# Altium footprint library microchip.PCBLIB: 54 footprints (part 3 of 4)
Each footprint in its own frame and in the unit in brackets; x right, y up, seen from the top. Pads: shape width x height; smd on the part's side, far side on the other; paste and mask are expansions set on the pad; w line width, h text height; cw(c..) or ccw(c..) is an arc to the next point about the centre after c.
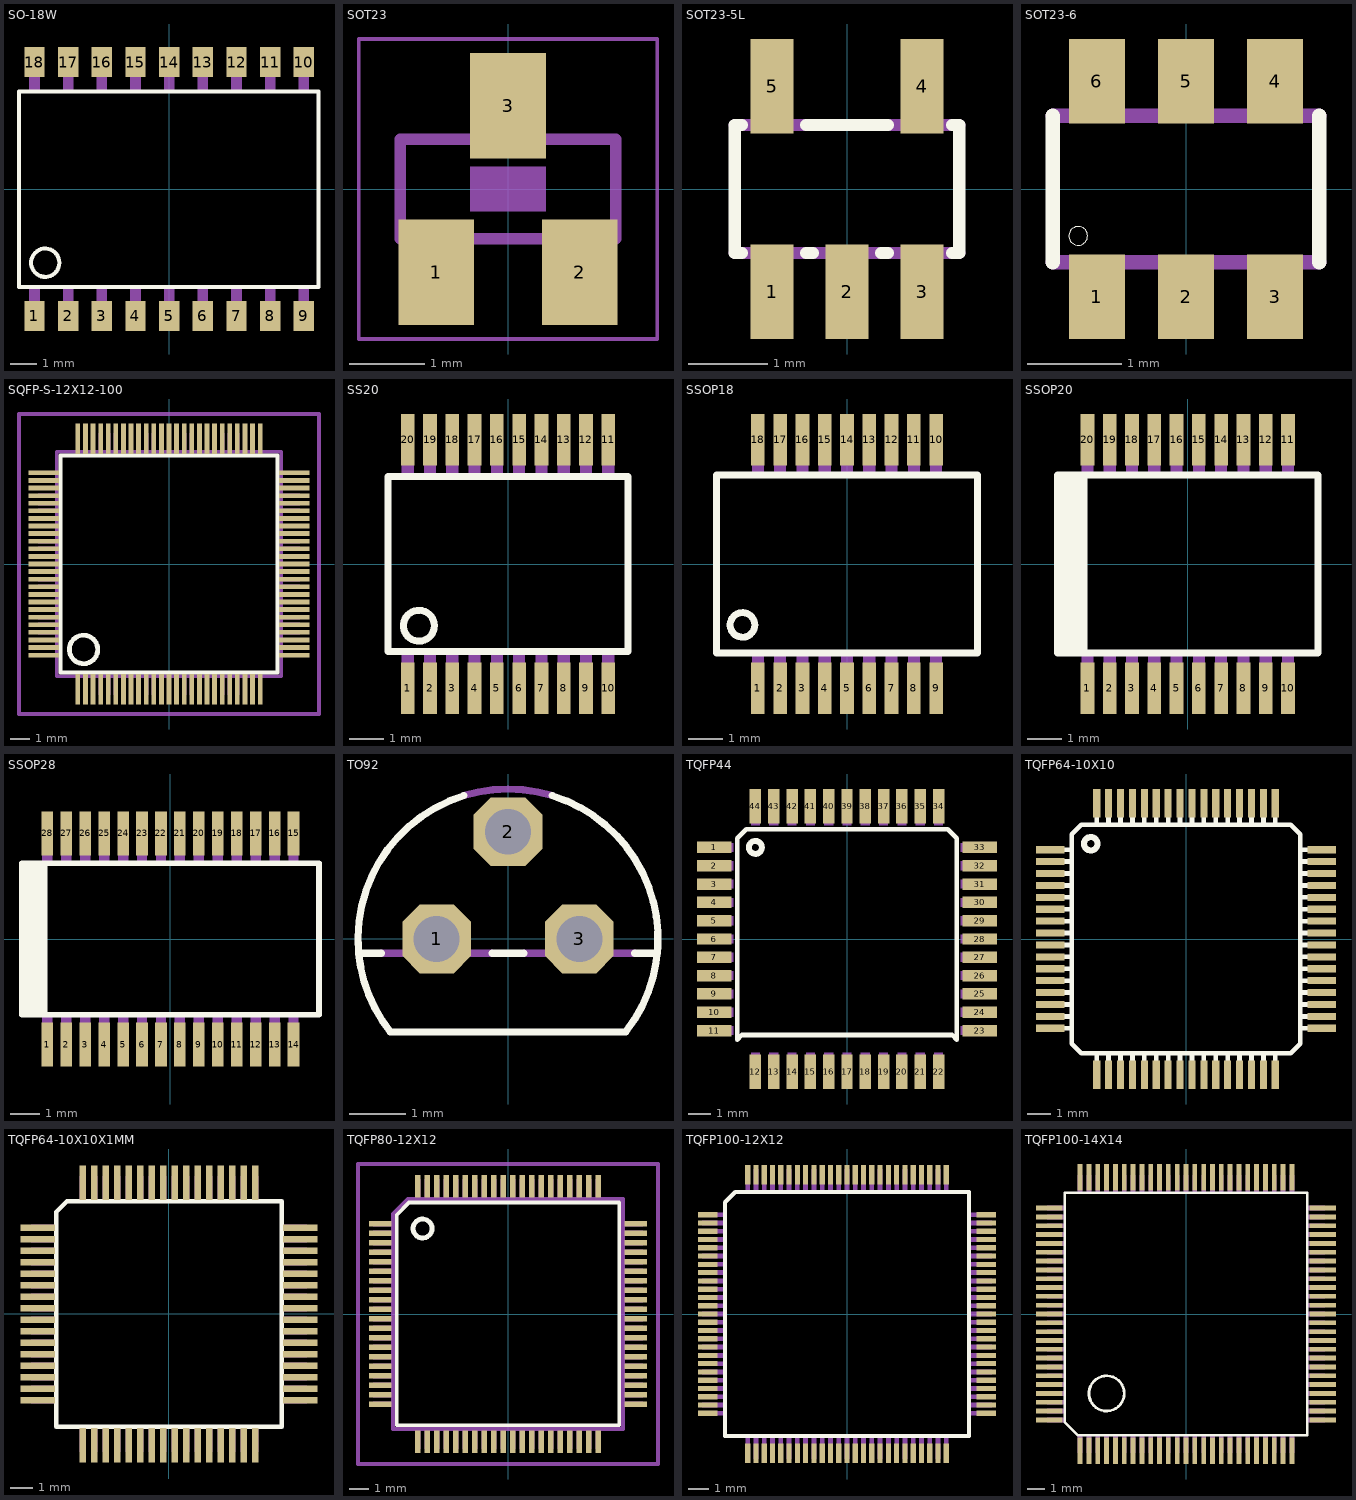
[diagram p2: the footprints below, top view; thin cyan lines are the x and y axes]

## SO-18W [mil]
pads (18):
  rect 30x45 smd: 1(-200,-188.5) 2(-150,-188.5) 3(-100,-188.5) 4(-50,-188.5) 5(0,-188.5) 6(50,-188.5) 7(100,-188.5) 8(150,-188.5) 9(200,-188.5) 10(200,188.5) 11(150,188.5) 12(100,188.5) 13(50,188.5) 14(0,188.5) 15(-50,188.5) 16(-100,188.5) 17(-150,188.5) 18(-200,188.5)
Top Overlay:
  circle w6: c-184,-109.5 r21
  lines w6: -223,-145.5 -223,144.5 222,144.5 222,-145.5 -223,-145.5
Mechanical 16:
  rectangle: 192,-200.5 208,-147.5
  rectangle: 142,-200.5 158,-147.5
  rectangle: 92,-200.5 108,-147.5
  rectangle: 42,-200.5 58,-147.5
  rectangle: -8,-200.5 8,-147.5
  rectangle: -58,-200.5 -42,-147.5
  rectangle: -108,-200.5 -92,-147.5
  rectangle: -158,-200.5 -142,-147.5
  rectangle: -208,-200.5 -192,-147.5
  rectangle: -208,146.5 -192,199.5
  rectangle: -158,146.5 -142,199.5
  rectangle: -108,146.5 -92,199.5
  rectangle: -58,146.5 -42,199.5
  rectangle: -8,146.5 8,199.5
  rectangle: 42,146.5 58,199.5
  rectangle: 92,146.5 108,199.5
  rectangle: 142,146.5 158,199.5
  rectangle: 192,146.5 208,199.5

## SOT23 [mm]
pads (3):
  rect 1x1.4 smd: 1(-0.95,-1.1) 2(0.95,-1.1) 3(0,1.1)
Mechanical 6:
  rectangle: -0.5,-0.3 0.5,0.3
Mechanical 16:
  rectangle: -0.229,0.711 0.229,1.295
  rectangle: 0.711,-1.295 1.168,-0.711
  rectangle: -1.168,-1.295 -0.711,-0.711
  lines w0.152: -1.422,-0.66 1.422,-0.66 1.422,0.66 -1.422,0.66 -1.422,-0.66
Mechanical 27:
  lines w0.051: -1.973,-1.983 1.973,-1.983 1.973,1.983 -1.973,1.983 -1.973,-1.983

## SOT23-5L [mm]
pads (5):
  rect 0.55x1.2 smd: 1(-0.95,-1.3) 2(0,-1.3) 3(0.95,-1.3) 4(0.95,1.3) 5(-0.95,1.3)
Top Overlay:
  lines w0.152: -1.328,-0.81 -1.422,-0.81 -1.422,0.81 -1.328,0.81 ; -0.522,-0.81 -0.428,-0.81 ; -0.522,0.81 0.522,0.81 ; 0.428,-0.81 0.522,-0.81 ; 1.328,-0.81 1.422,-0.81 1.422,0.81 1.328,0.81
Mechanical 16:
  rectangle: -1.2,-1.5 -0.7,-0.85
  rectangle: -0.25,-1.5 0.25,-0.85
  rectangle: 0.7,-1.5 1.2,-0.85
  rectangle: 0.7,0.85 1.2,1.5
  rectangle: -1.2,0.85 -0.7,1.5
  lines w0.152: -1.422,-0.81 1.422,-0.81 ; -1.422,0.81 1.422,0.81

## SOT23-6 [mm]
pads (6):
  rect 0.6x0.9 smd: 1(-0.95,-1.15) 2(0,-1.15) 3(0.95,-1.15) 4(0.95,1.15) 5(0,1.15) 6(-0.95,1.15)
Top Overlay:
  circle w0: c-1.15,-0.5 r0.1
  lines w0.152: -1.423,-0.781 -1.423,0.781 ; 1.422,-0.781 1.422,0.781
Mechanical 16:
  rectangle: -1.2,-1.4 -0.7,-0.8
  rectangle: -0.25,-1.4 0.25,-0.8
  rectangle: 0.7,-1.4 1.2,-0.8
  rectangle: 0.7,0.8 1.2,1.4
  rectangle: -0.25,0.8 0.25,1.4
  rectangle: -1.2,0.8 -0.7,1.4
  lines w0.152: -1.423,-0.781 1.422,-0.781 ; -1.423,0.781 1.422,0.781

## SQFP-S-12X12-100 [mm]
pads (100):
  rect 0.25x1.6 smd: 1(-4.8,-6.6) 2(-4.4,-6.6) 3(-4,-6.6) 4(-3.6,-6.6) 5(-3.2,-6.6) 6(-2.8,-6.6) 7(-2.4,-6.6) 8(-2,-6.6) 9(-1.6,-6.6) 10(-1.2,-6.6) 11(-0.8,-6.6) 12(-0.4,-6.6) 13(0,-6.6) 14(0.4,-6.6) 15(0.8,-6.6) 16(1.2,-6.6) 17(1.6,-6.6) 18(2,-6.6) 19(2.4,-6.6) 20(2.8,-6.6) 21(3.2,-6.6) 22(3.6,-6.6) 23(4,-6.6) 24(4.4,-6.6) 25(4.8,-6.6) 51(4.8,6.6) 52(4.4,6.6) 53(4,6.6) 54(3.6,6.6) 55(3.2,6.6) 56(2.8,6.6) 57(2.4,6.6) 58(2,6.6) 59(1.6,6.6) 60(1.2,6.6) 61(0.8,6.6) 62(0.4,6.6) 63(0,6.6) 64(-0.4,6.6) 65(-0.8,6.6) 66(-1.2,6.6) 67(-1.6,6.6) 68(-2,6.6) 69(-2.4,6.6) 70(-2.8,6.6) 71(-3.2,6.6) 72(-3.6,6.6) 73(-4,6.6) 74(-4.4,6.6) 75(-4.8,6.6)
  rect 1.6x0.25 smd: 26(6.6,-4.8) 27(6.6,-4.4) 28(6.6,-4) 29(6.6,-3.6) 30(6.6,-3.2) 31(6.6,-2.8) 32(6.6,-2.4) 33(6.6,-2) 34(6.6,-1.6) 35(6.6,-1.2) 36(6.6,-0.8) 37(6.6,-0.4) 38(6.6,0) 39(6.6,0.4) 40(6.6,0.8) 41(6.6,1.2) 42(6.6,1.6) 43(6.6,2) 44(6.6,2.4) 45(6.6,2.8) 46(6.6,3.2) 47(6.6,3.6) 48(6.6,4) 49(6.6,4.4) 50(6.6,4.8) 76(-6.6,4.8) 77(-6.6,4.4) 78(-6.6,4) 79(-6.6,3.6) 80(-6.6,3.2) 81(-6.6,2.8) 82(-6.6,2.4) 83(-6.6,2) 84(-6.6,1.6) 85(-6.6,1.2) 86(-6.6,0.8) 87(-6.6,0.4) 88(-6.6,0) 89(-6.6,-0.4) 90(-6.6,-0.8) 91(-6.6,-1.2) 92(-6.6,-1.6) 93(-6.6,-2) 94(-6.6,-2.4) 95(-6.6,-2.8) 96(-6.6,-3.2) 97(-6.6,-3.6) 98(-6.6,-4) 99(-6.6,-4.4) 100(-6.6,-4.8)
Top Overlay:
  circle w0.254: c-4.5,-4.5 r0.75
  lines w0.203: -5.72,-5.71 5.71,-5.71 5.71,5.71 -5.72,5.71 -5.72,-5.71
Mechanical 16:
  rectangle: -4.91,-6.9 -4.69,-5.95
  rectangle: -4.51,-6.9 -4.29,-5.95
  rectangle: -4.11,-6.9 -3.89,-5.95
  rectangle: -3.71,-6.9 -3.49,-5.95
  rectangle: -3.31,-6.9 -3.09,-5.95
  rectangle: -2.91,-6.9 -2.69,-5.95
  rectangle: -2.51,-6.9 -2.29,-5.95
  rectangle: -2.11,-6.9 -1.89,-5.95
  rectangle: -1.71,-6.9 -1.49,-5.95
  rectangle: -1.31,-6.9 -1.09,-5.95
  rectangle: -0.91,-6.9 -0.69,-5.95
  rectangle: -0.51,-6.9 -0.29,-5.95
  rectangle: -0.11,-6.9 0.11,-5.95
  rectangle: 0.29,-6.9 0.51,-5.95
  rectangle: 0.69,-6.9 0.91,-5.95
  rectangle: 1.09,-6.9 1.31,-5.95
  rectangle: 1.49,-6.9 1.71,-5.95
  rectangle: 1.89,-6.9 2.11,-5.95
  rectangle: 2.29,-6.9 2.51,-5.95
  rectangle: 2.69,-6.9 2.91,-5.95
  rectangle: 3.09,-6.9 3.31,-5.95
  rectangle: 3.49,-6.9 3.71,-5.95
  rectangle: 3.89,-6.9 4.11,-5.95
  rectangle: 4.29,-6.9 4.51,-5.95
  rectangle: 4.69,-6.9 4.91,-5.95
  rectangle: 5.95,-4.91 6.9,-4.69
  rectangle: 5.95,-4.51 6.9,-4.29
  rectangle: 5.95,-4.11 6.9,-3.89
  rectangle: 5.95,-3.71 6.9,-3.49
  rectangle: 5.95,-3.31 6.9,-3.09
  rectangle: 5.95,-2.91 6.9,-2.69
  rectangle: 5.95,-2.51 6.9,-2.29
  rectangle: 5.95,-2.11 6.9,-1.89
  rectangle: 5.95,-1.71 6.9,-1.49
  rectangle: 5.95,-1.31 6.9,-1.09
  rectangle: 5.95,-0.91 6.9,-0.69
  rectangle: 5.95,-0.51 6.9,-0.29
  rectangle: 5.95,-0.11 6.9,0.11
  rectangle: 5.95,0.29 6.9,0.51
  rectangle: 5.95,0.69 6.9,0.91
  rectangle: 5.95,1.09 6.9,1.31
  rectangle: 5.95,1.49 6.9,1.71
  rectangle: 5.95,1.89 6.9,2.11
  rectangle: 5.95,2.29 6.9,2.51
  rectangle: 5.95,2.69 6.9,2.91
  rectangle: 5.95,3.09 6.9,3.31
  rectangle: 5.95,3.49 6.9,3.71
  rectangle: 5.95,3.89 6.9,4.11
  rectangle: 5.95,4.29 6.9,4.51
  rectangle: 5.95,4.69 6.9,4.91
  rectangle: 4.69,5.95 4.91,6.9
  rectangle: 4.29,5.95 4.51,6.9
  rectangle: 3.89,5.95 4.11,6.9
  rectangle: 3.49,5.95 3.71,6.9
  rectangle: 3.09,5.95 3.31,6.9
  rectangle: 2.69,5.95 2.91,6.9
  rectangle: 2.29,5.95 2.51,6.9
  rectangle: 1.89,5.95 2.11,6.9
  rectangle: 1.49,5.95 1.71,6.9
  rectangle: 1.09,5.95 1.31,6.9
  rectangle: 0.69,5.95 0.91,6.9
  rectangle: 0.29,5.95 0.51,6.9
  rectangle: -0.11,5.95 0.11,6.9
  rectangle: -0.51,5.95 -0.29,6.9
  rectangle: -0.91,5.95 -0.69,6.9
  rectangle: -1.31,5.95 -1.09,6.9
  rectangle: -1.71,5.95 -1.49,6.9
  rectangle: -2.11,5.95 -1.89,6.9
  rectangle: -2.51,5.95 -2.29,6.9
  rectangle: -2.91,5.95 -2.69,6.9
  rectangle: -3.31,5.95 -3.09,6.9
  rectangle: -3.71,5.95 -3.49,6.9
  rectangle: -4.11,5.95 -3.89,6.9
  rectangle: -4.51,5.95 -4.29,6.9
  rectangle: -4.91,5.95 -4.69,6.9
  rectangle: -6.9,4.69 -5.95,4.91
  rectangle: -6.9,4.29 -5.95,4.51
  rectangle: -6.9,3.89 -5.95,4.11
  rectangle: -6.9,3.49 -5.95,3.71
  rectangle: -6.9,3.09 -5.95,3.31
  rectangle: -6.9,2.69 -5.95,2.91
  rectangle: -6.9,2.29 -5.95,2.51
  rectangle: -6.9,1.89 -5.95,2.11
  rectangle: -6.9,1.49 -5.95,1.71
  rectangle: -6.9,1.09 -5.95,1.31
  rectangle: -6.9,0.69 -5.95,0.91
  rectangle: -6.9,0.29 -5.95,0.51
  rectangle: -6.9,-0.11 -5.95,0.11
  rectangle: -6.9,-0.51 -5.95,-0.29
  rectangle: -6.9,-0.91 -5.95,-0.69
  rectangle: -6.9,-1.31 -5.95,-1.09
  rectangle: -6.9,-1.71 -5.95,-1.49
  rectangle: -6.9,-2.11 -5.95,-1.89
  rectangle: -6.9,-2.51 -5.95,-2.29
  rectangle: -6.9,-2.91 -5.95,-2.69
  rectangle: -6.9,-3.31 -5.95,-3.09
  rectangle: -6.9,-3.71 -5.95,-3.49
  rectangle: -6.9,-4.11 -5.95,-3.89
  rectangle: -6.9,-4.51 -5.95,-4.29
  rectangle: -6.9,-4.91 -5.95,-4.69
  lines w0.203: -5.91,-5.91 5.91,-5.91 5.91,5.91 -5.91,5.91 -5.91,-5.91
Mechanical 27:
  lines w0.2: -7.9,-7.9 -7.9,7.9 7.9,7.9 7.9,-7.9 -7.9,-7.9

## SS20 [mm]
pads (20):
  rect 0.4x1.5 smd: 1(-2.925,-3.625) 2(-2.275,-3.625) 3(-1.625,-3.625) 4(-0.975,-3.625) 5(-0.325,-3.625) 6(0.325,-3.625) 7(0.975,-3.625) 8(1.625,-3.625) 9(2.275,-3.625) 10(2.925,-3.625) 11(2.925,3.625) 12(2.275,3.625) 13(1.625,3.625) 14(0.975,3.625) 15(0.325,3.625) 16(-0.325,3.625) 17(-0.975,3.625) 18(-1.625,3.625) 19(-2.275,3.625) 20(-2.925,3.625)
Top Overlay:
  circle w0.203: c-2.6,-1.8 r0.451
  lines w0.203: -3.5,-2.55 3.5,-2.55 3.5,2.55 -3.5,2.55 -3.5,-2.55
Mechanical 16:
  rectangle: -3.103,-4.09 -2.747,-2.65
  rectangle: -2.453,-4.09 -2.097,-2.65
  rectangle: -1.803,-4.09 -1.447,-2.65
  rectangle: -1.153,-4.09 -0.797,-2.65
  rectangle: -0.503,-4.09 -0.147,-2.65
  rectangle: 0.147,-4.09 0.503,-2.65
  rectangle: 0.797,-4.09 1.153,-2.65
  rectangle: 1.447,-4.09 1.803,-2.65
  rectangle: 2.097,-4.09 2.453,-2.65
  rectangle: 2.747,-4.09 3.103,-2.65
  rectangle: 2.747,2.65 3.103,4.09
  rectangle: 2.097,2.65 2.453,4.09
  rectangle: 1.447,2.65 1.803,4.09
  rectangle: 0.797,2.65 1.153,4.09
  rectangle: 0.147,2.65 0.503,4.09
  rectangle: -0.503,2.65 -0.147,4.09
  rectangle: -1.153,2.65 -0.797,4.09
  rectangle: -1.803,2.65 -1.447,4.09
  rectangle: -2.453,2.65 -2.097,4.09
  rectangle: -3.103,2.65 -2.747,4.09

## SSOP18 [mm]
pads (18):
  rect 0.4x1.5 smd: 1(-2.6,-3.625) 2(-1.95,-3.625) 3(-1.3,-3.625) 4(-0.65,-3.625) 5(0,-3.625) 6(0.65,-3.625) 7(1.3,-3.625) 8(1.95,-3.625) 9(2.6,-3.625) 10(2.6,3.625) 11(1.95,3.625) 12(1.3,3.625) 13(0.65,3.625) 14(0,3.625) 15(-0.65,3.625) 16(-1.3,3.625) 17(-1.95,3.625) 18(-2.6,3.625)
Top Overlay:
  circle w0.203: c-3.048,-1.778 r0.359
  lines w0.203: -3.8,-2.6 3.8,-2.6 3.8,2.6 -3.8,2.6 -3.8,-2.6
Mechanical 16:
  rectangle: -2.778,-3.937 -2.422,-2.642
  rectangle: -2.128,-3.937 -1.772,-2.642
  rectangle: -1.478,-3.937 -1.122,-2.642
  rectangle: -0.828,-3.937 -0.472,-2.642
  rectangle: -0.178,-3.937 0.178,-2.642
  rectangle: 0.472,-3.937 0.828,-2.642
  rectangle: 1.122,-3.937 1.478,-2.642
  rectangle: 1.772,-3.937 2.128,-2.642
  rectangle: 2.422,-3.937 2.778,-2.642
  region: 2.778,3.937 2.422,3.937 2.422,2.642 2.778,2.642
  rectangle: 1.772,2.642 2.128,3.937
  rectangle: 1.122,2.642 1.478,3.937
  rectangle: 0.472,2.642 0.828,3.937
  rectangle: -0.178,2.642 0.178,3.937
  rectangle: -0.828,2.642 -0.472,3.937
  rectangle: -1.478,2.642 -1.122,3.937
  rectangle: -2.128,2.642 -1.772,3.937
  rectangle: -2.778,2.642 -2.422,3.937

## SSOP20 [mm]
pads (20):
  rect 0.4x1.5 smd: 1(-2.925,-3.625) 2(-2.275,-3.625) 3(-1.625,-3.625) 4(-0.975,-3.625) 5(-0.325,-3.625) 6(0.325,-3.625) 7(0.975,-3.625) 8(1.625,-3.625) 9(2.275,-3.625) 10(2.925,-3.625) 11(2.925,3.625) 12(2.275,3.625) 13(1.625,3.625) 14(0.975,3.625) 15(0.325,3.625) 16(-0.325,3.625) 17(-0.975,3.625) 18(-1.625,3.625) 19(-2.275,3.625) 20(-2.925,3.625)
Top Overlay:
  rectangle: -3.9,-2.6 -2.925,2.6
  lines w0.203: -3.8,-2.6 3.8,-2.6 3.8,2.6 -3.8,2.6
Mechanical 16:
  rectangle: -3.103,-3.937 -2.747,-2.642
  rectangle: -2.453,-3.937 -2.097,-2.642
  rectangle: -1.803,-3.937 -1.447,-2.642
  rectangle: -1.153,-3.937 -0.797,-2.642
  rectangle: -0.503,-3.937 -0.147,-2.642
  rectangle: 0.147,-3.937 0.503,-2.642
  rectangle: 0.797,-3.937 1.153,-2.642
  rectangle: 1.447,-3.937 1.803,-2.642
  rectangle: 2.097,-3.937 2.453,-2.642
  rectangle: 2.747,-3.937 3.103,-2.642
  rectangle: 2.747,2.642 3.103,3.937
  rectangle: 2.097,2.642 2.453,3.937
  rectangle: 1.447,2.642 1.803,3.937
  rectangle: 0.797,2.642 1.153,3.937
  rectangle: 0.147,2.642 0.503,3.937
  rectangle: -0.503,2.642 -0.147,3.937
  rectangle: -1.153,2.642 -0.797,3.937
  rectangle: -1.803,2.642 -1.447,3.937
  rectangle: -2.453,2.642 -2.097,3.937
  rectangle: -3.103,2.642 -2.747,3.937

## SSOP28 [mm]
pads (28):
  rect 0.4x1.5 smd: 1(-4.225,-3.625) 2(-3.575,-3.625) 3(-2.925,-3.625) 4(-2.275,-3.625) 5(-1.625,-3.625) 6(-0.975,-3.625) 7(-0.325,-3.625) 8(0.325,-3.625) 9(0.975,-3.625) 10(1.625,-3.625) 11(2.275,-3.625) 12(2.925,-3.625) 13(3.575,-3.625) 14(4.225,-3.625) 15(4.225,3.625) 16(3.575,3.625) 17(2.925,3.625) 18(2.275,3.625) 19(1.625,3.625) 20(0.975,3.625) 21(0.325,3.625) 22(-0.325,3.625) 23(-0.975,3.625) 24(-1.625,3.625) 25(-2.275,3.625) 26(-2.925,3.625) 27(-3.575,3.625) 28(-4.225,3.625)
Top Overlay:
  rectangle: -5.2,-2.6 -4.225,2.6
  lines w0.203: -5.1,-2.6 5.1,-2.6 5.1,2.6 -5.1,2.6
Mechanical 16:
  rectangle: -4.403,-3.937 -4.047,-2.642
  rectangle: -3.753,-3.937 -3.397,-2.642
  rectangle: -3.103,-3.937 -2.747,-2.642
  rectangle: -2.453,-3.937 -2.097,-2.642
  rectangle: -1.803,-3.937 -1.447,-2.642
  rectangle: -1.153,-3.937 -0.797,-2.642
  rectangle: -0.503,-3.937 -0.147,-2.642
  rectangle: 0.147,-3.937 0.503,-2.642
  rectangle: 0.797,-3.937 1.153,-2.642
  rectangle: 1.447,-3.937 1.803,-2.642
  rectangle: 2.097,-3.937 2.453,-2.642
  rectangle: 2.747,-3.937 3.103,-2.642
  rectangle: 3.397,-3.937 3.753,-2.642
  rectangle: 4.047,-3.937 4.403,-2.642
  rectangle: 4.047,2.642 4.403,3.937
  rectangle: 3.397,2.642 3.753,3.937
  rectangle: 2.747,2.642 3.103,3.937
  rectangle: 2.097,2.642 2.453,3.937
  rectangle: 1.447,2.642 1.803,3.937
  rectangle: 0.797,2.642 1.153,3.937
  rectangle: 0.147,2.642 0.503,3.937
  rectangle: -0.503,2.642 -0.147,3.937
  rectangle: -1.153,2.642 -0.797,3.937
  rectangle: -1.803,2.642 -1.447,3.937
  rectangle: -2.453,2.642 -2.097,3.937
  rectangle: -3.103,2.642 -2.747,3.937
  rectangle: -3.753,2.642 -3.397,3.937
  rectangle: -4.403,2.642 -4.047,3.937

## TO92 [mil]
pads (3):
  oct 48x48 hole 32: 1(-50,0) 2(0,75) 3(50,0)
Top Overlay:
  lines w5: -88.73,-10 -104.52,-10 ; -30.96,100.33 ccw(c0,0) -104.52,-10 ; -11.27,-10 11.27,-10 ; 30.96,100.33 cw(c0,0) 82.46,-65 -82.46,-65 cw(c0,0) -104.52,-10 ; 88.73,-10 104.52,-10
Mechanical 16:
  lines w5: -88.73,-10 -11.27,-10 ; -30.96,100.33 cw(c0,-0.02) 30.96,100.33 ; 11.27,-10 88.73,-10

## TQFP44 [mm]
pads (44):
  rect 1.5x0.5 smd: 1(-5.8,4) 2(-5.8,3.2) 3(-5.8,2.4) 4(-5.8,1.6) 5(-5.8,0.8) 6(-5.8,0) 7(-5.8,-0.8) 8(-5.8,-1.6) 9(-5.8,-2.4) 10(-5.8,-3.2) 11(-5.8,-4) 23(5.8,-4) 24(5.8,-3.2) 25(5.8,-2.4) 26(5.8,-1.6) 27(5.8,-0.8) 28(5.8,0) 29(5.8,0.8) 30(5.8,1.6) 31(5.8,2.4) 32(5.8,3.2) 33(5.8,4)
  rect 0.5x1.5 smd: 12(-4,-5.8) 13(-3.2,-5.8) 14(-2.4,-5.8) 15(-1.6,-5.8) 16(-0.8,-5.8) 17(0,-5.8) 18(0.8,-5.8) 19(1.6,-5.8) 20(2.4,-5.8) 21(3.2,-5.8) 22(4,-5.8) 34(4,5.8) 35(3.2,5.8) 36(2.4,5.8) 37(1.6,5.8) 38(0.8,5.8) 39(0,5.8) 40(-0.8,5.8) 41(-1.6,5.8) 42(-2.4,5.8) 43(-3.2,5.8) 44(-4,5.8)
Top Overlay:
  circle w0.254: c-4,4 r0.283
  lines w0.203: -4.8,-4.4 -4.591,-4.191 4.591,-4.191 4.8,-4.4 4.8,4.4 4.4,4.8 -4.4,4.8 -4.8,4.4 -4.8,-4.4
Mechanical 16:
  rectangle: -6.1,3.8 -4.95,4.2
  rectangle: -6.1,3 -4.95,3.4
  rectangle: -6.1,2.2 -4.95,2.6
  rectangle: -6.1,1.4 -4.95,1.8
  rectangle: -6.1,0.6 -4.95,1
  rectangle: -6.1,-0.2 -4.95,0.2
  rectangle: -6.1,-1 -4.95,-0.6
  rectangle: -6.1,-1.8 -4.95,-1.4
  rectangle: -6.1,-2.6 -4.95,-2.2
  rectangle: -6.1,-3.4 -4.95,-3
  rectangle: -6.1,-4.2 -4.95,-3.8
  rectangle: -4.2,-6.1 -3.8,-4.95
  rectangle: -3.4,-6.1 -3,-4.95
  rectangle: -2.6,-6.1 -2.2,-4.95
  rectangle: -1.8,-6.1 -1.4,-4.95
  rectangle: -1,-6.1 -0.6,-4.95
  rectangle: -0.2,-6.1 0.2,-4.95
  rectangle: 0.6,-6.1 1,-4.95
  rectangle: 1.4,-6.1 1.8,-4.95
  rectangle: 2.2,-6.1 2.6,-4.95
  rectangle: 3,-6.1 3.4,-4.95
  rectangle: 3.8,-6.1 4.2,-4.95
  rectangle: 4.95,-4.2 6.1,-3.8
  rectangle: 4.95,-3.4 6.1,-3
  rectangle: 4.95,-2.6 6.1,-2.2
  rectangle: 4.95,-1.8 6.1,-1.4
  rectangle: 4.95,-1 6.1,-0.6
  rectangle: 4.95,-0.2 6.1,0.2
  rectangle: 4.95,0.6 6.1,1
  rectangle: 4.95,1.4 6.1,1.8
  rectangle: 4.95,2.2 6.1,2.6
  rectangle: 4.95,3 6.1,3.4
  rectangle: 4.95,3.8 6.1,4.2
  rectangle: 3.8,4.95 4.2,6.1
  rectangle: 3,4.95 3.4,6.1
  rectangle: 2.2,4.95 2.6,6.1
  rectangle: 1.4,4.95 1.8,6.1
  rectangle: 0.6,4.95 1,6.1
  rectangle: -0.2,4.95 0.2,6.1
  rectangle: -1,4.95 -0.6,6.1
  rectangle: -1.8,4.95 -1.4,6.1
  rectangle: -2.6,4.95 -2.2,6.1
  rectangle: -3.4,4.95 -3,6.1
  rectangle: -4.2,4.95 -3.8,6.1
3D body "User Library-TQFP-44-1.STEP": height 1.1, standoff 0, extent -6,-5.969 6,6.031

## TQFP64-10X10 [mm]
pads (64):
  rect 1.2x0.3 smd: 1(-5.7,3.75) 2(-5.7,3.25) 3(-5.7,2.75) 4(-5.7,2.25) 5(-5.7,1.75) 6(-5.7,1.25) 7(-5.7,0.75) 8(-5.7,0.25) 9(-5.7,-0.25) 10(-5.7,-0.75) 11(-5.7,-1.25) 12(-5.7,-1.75) 13(-5.7,-2.25) 14(-5.7,-2.75) 15(-5.7,-3.25) 16(-5.7,-3.75) 33(5.7,-3.75) 34(5.7,-3.25) 35(5.7,-2.75) 36(5.7,-2.25) 37(5.7,-1.75) 38(5.7,-1.25) 39(5.7,-0.75) 40(5.7,-0.25) 41(5.7,0.25) 42(5.7,0.75) 43(5.7,1.25) 44(5.7,1.75) 45(5.7,2.25) 46(5.7,2.75) 47(5.7,3.25) 48(5.7,3.75)
  rect 0.3x1.2 smd: 17(-3.75,-5.7) 18(-3.25,-5.7) 19(-2.75,-5.7) 20(-2.25,-5.7) 21(-1.75,-5.7) 22(-1.25,-5.7) 23(-0.75,-5.7) 24(-0.25,-5.7) 25(0.25,-5.7) 26(0.75,-5.7) 27(1.25,-5.7) 28(1.75,-5.7) 29(2.25,-5.7) 30(2.75,-5.7) 31(3.25,-5.7) 32(3.75,-5.7) 49(3.75,5.7) 50(3.25,5.7) 51(2.75,5.7) 52(2.25,5.7) 53(1.75,5.7) 54(1.25,5.7) 55(0.75,5.7) 56(0.25,5.7) 57(-0.25,5.7) 58(-0.75,5.7) 59(-1.25,5.7) 60(-1.75,5.7) 61(-2.25,5.7) 62(-2.75,5.7) 63(-3.25,5.7) 64(-3.75,5.7)
Top Overlay:
  circle w0.254: c-4,4 r0.283
  rectangle: -6,3.65 -4.8,3.85
  rectangle: -6,3.15 -4.8,3.35
  rectangle: -6,2.65 -4.8,2.85
  rectangle: -6,2.15 -4.8,2.35
  rectangle: -6,1.65 -4.8,1.85
  rectangle: -6,1.15 -4.8,1.35
  rectangle: -6,0.65 -4.8,0.85
  rectangle: -6,0.15 -4.8,0.35
  rectangle: -6,-0.35 -4.8,-0.15
  rectangle: -6,-0.85 -4.8,-0.65
  rectangle: -6,-1.35 -4.8,-1.15
  rectangle: -6,-1.85 -4.8,-1.65
  rectangle: -6,-2.35 -4.8,-2.15
  rectangle: -6,-2.85 -4.8,-2.65
  rectangle: -6,-3.35 -4.8,-3.15
  rectangle: -6,-3.85 -4.8,-3.65
  rectangle: -3.85,-6 -3.65,-4.8
  rectangle: -3.35,-6 -3.15,-4.8
  rectangle: -2.85,-6 -2.65,-4.8
  rectangle: -2.35,-6 -2.15,-4.8
  rectangle: -1.85,-6 -1.65,-4.8
  rectangle: -1.35,-6 -1.15,-4.8
  rectangle: -0.85,-6 -0.65,-4.8
  rectangle: -0.35,-6 -0.15,-4.8
  rectangle: 0.15,-6 0.35,-4.8
  rectangle: 0.65,-6 0.85,-4.8
  rectangle: 1.15,-6 1.35,-4.8
  rectangle: 1.65,-6 1.85,-4.8
  rectangle: 2.15,-6 2.35,-4.8
  rectangle: 2.65,-6 2.85,-4.8
  rectangle: 3.15,-6 3.35,-4.8
  rectangle: 3.65,-6 3.85,-4.8
  rectangle: 4.8,-3.85 6,-3.65
  rectangle: 4.8,-3.35 6,-3.15
  rectangle: 4.8,-2.85 6,-2.65
  rectangle: 4.8,-2.35 6,-2.15
  rectangle: 4.8,-1.85 6,-1.65
  rectangle: 4.8,-1.35 6,-1.15
  rectangle: 4.8,-0.85 6,-0.65
  rectangle: 4.8,-0.35 6,-0.15
  rectangle: 4.8,0.15 6,0.35
  rectangle: 4.8,0.65 6,0.85
  rectangle: 4.8,1.15 6,1.35
  rectangle: 4.8,1.65 6,1.85
  rectangle: 4.8,2.15 6,2.35
  rectangle: 4.8,2.65 6,2.85
  rectangle: 4.8,3.15 6,3.35
  rectangle: 4.8,3.65 6,3.85
  rectangle: 3.65,4.8 3.85,6
  rectangle: 3.15,4.8 3.35,6
  rectangle: 2.65,4.8 2.85,6
  rectangle: 2.15,4.8 2.35,6
  rectangle: 1.65,4.8 1.85,6
  rectangle: 1.15,4.8 1.35,6
  rectangle: 0.65,4.8 0.85,6
  rectangle: 0.15,4.8 0.35,6
  rectangle: -0.35,4.8 -0.15,6
  rectangle: -0.85,4.8 -0.65,6
  rectangle: -1.35,4.8 -1.15,6
  rectangle: -1.85,4.8 -1.65,6
  rectangle: -2.35,4.8 -2.15,6
  rectangle: -2.85,4.8 -2.65,6
  rectangle: -3.35,4.8 -3.15,6
  rectangle: -3.85,4.8 -3.65,6
  lines w0.203: -4.8,-4.4 -4.4,-4.8 4.4,-4.8 4.8,-4.4 4.8,4.4 4.4,4.8 -4.4,4.8 -4.8,4.4 -4.8,-4.4

## TQFP64-10X10X1MM [mm]
pads (64):
  rect 1.5x0.3 smd: 1(-5.7,3.75) 2(-5.7,3.25) 3(-5.7,2.75) 4(-5.7,2.25) 5(-5.7,1.75) 6(-5.7,1.25) 7(-5.7,0.75) 8(-5.7,0.25) 9(-5.7,-0.25) 10(-5.7,-0.75) 11(-5.7,-1.25) 12(-5.7,-1.75) 13(-5.7,-2.25) 14(-5.7,-2.75) 15(-5.7,-3.25) 16(-5.7,-3.75) 33(5.7,-3.75) 34(5.7,-3.25) 35(5.7,-2.75) 36(5.7,-2.25) 37(5.7,-1.75) 38(5.7,-1.25) 39(5.7,-0.75) 40(5.7,-0.25) 41(5.7,0.25) 42(5.7,0.75) 43(5.7,1.25) 44(5.7,1.75) 45(5.7,2.25) 46(5.7,2.75) 47(5.7,3.25) 48(5.7,3.75)
  rect 0.3x1.5 smd: 17(-3.75,-5.7) 18(-3.25,-5.7) 19(-2.75,-5.7) 20(-2.25,-5.7) 21(-1.75,-5.7) 22(-1.25,-5.7) 23(-0.75,-5.7) 24(-0.25,-5.7) 25(0.25,-5.7) 26(0.75,-5.7) 27(1.25,-5.7) 28(1.75,-5.7) 29(2.25,-5.7) 30(2.75,-5.7) 31(3.25,-5.7) 32(3.75,-5.7) 49(3.75,5.7) 50(3.25,5.7) 51(2.75,5.7) 52(2.25,5.7) 53(1.75,5.7) 54(1.25,5.7) 55(0.75,5.7) 56(0.25,5.7) 57(-0.25,5.7) 58(-0.75,5.7) 59(-1.25,5.7) 60(-1.75,5.7) 61(-2.25,5.7) 62(-2.75,5.7) 63(-3.25,5.7) 64(-3.75,5.7)
Top Overlay:
  lines w0.203: -4.898,-4.898 4.898,-4.898 4.898,4.898 -4.437,4.898 -4.898,4.437 -4.898,-4.898
Top Solder:
  rectangle: -6.525,3.575 -4.9,3.925
  rectangle: -6.525,3.075 -4.9,3.425
  rectangle: -6.525,2.575 -4.9,2.925
  rectangle: -6.525,2.075 -4.9,2.425
  rectangle: -6.525,1.575 -4.9,1.925
  rectangle: -6.525,1.075 -4.9,1.425
  rectangle: -6.525,0.575 -4.9,0.925
  rectangle: -6.525,0.075 -4.9,0.425
  rectangle: -6.525,-0.425 -4.9,-0.075
  rectangle: -6.525,-0.925 -4.9,-0.575
  rectangle: -6.525,-1.425 -4.9,-1.075
  rectangle: -6.525,-1.925 -4.9,-1.575
  rectangle: -6.525,-2.425 -4.9,-2.075
  rectangle: -6.525,-2.925 -4.9,-2.575
  rectangle: -6.525,-3.425 -4.9,-3.075
  rectangle: -6.525,-3.925 -4.9,-3.575
  region: -3.575,-6.525 -3.575,-4.9 -3.925,-4.9 -3.925,-6.525
  region: -3.075,-6.525 -3.075,-4.9 -3.425,-4.9 -3.425,-6.525
  region: -2.575,-6.525 -2.575,-4.9 -2.925,-4.9 -2.925,-6.525
  region: -2.075,-6.525 -2.075,-4.9 -2.425,-4.9 -2.425,-6.525
  region: -1.575,-6.525 -1.575,-4.9 -1.925,-4.9 -1.925,-6.525
  region: -1.075,-6.525 -1.075,-4.9 -1.425,-4.9 -1.425,-6.525
  region: -0.575,-6.525 -0.575,-4.9 -0.925,-4.9 -0.925,-6.525
  region: -0.075,-6.525 -0.075,-4.9 -0.425,-4.9 -0.425,-6.525
  region: 0.425,-6.525 0.425,-4.9 0.075,-4.9 0.075,-6.525
  region: 0.925,-6.525 0.925,-4.9 0.575,-4.9 0.575,-6.525
  region: 1.425,-6.525 1.425,-4.9 1.075,-4.9 1.075,-6.525
  region: 1.925,-6.525 1.925,-4.9 1.575,-4.9 1.575,-6.525
  region: 2.425,-6.525 2.425,-4.9 2.075,-4.9 2.075,-6.525
  region: 2.925,-6.525 2.925,-4.9 2.575,-4.9 2.575,-6.525
  region: 3.425,-6.525 3.425,-4.9 3.075,-4.9 3.075,-6.525
  region: 3.925,-6.525 3.925,-4.9 3.575,-4.9 3.575,-6.525
  region: 6.525,-3.575 4.9,-3.575 4.9,-3.925 6.525,-3.925
  region: 6.525,-3.075 4.9,-3.075 4.9,-3.425 6.525,-3.425
  region: 6.525,-2.575 4.9,-2.575 4.9,-2.925 6.525,-2.925
  region: 6.525,-2.075 4.9,-2.075 4.9,-2.425 6.525,-2.425
  region: 6.525,-1.575 4.9,-1.575 4.9,-1.925 6.525,-1.925
  region: 6.525,-1.075 4.9,-1.075 4.9,-1.425 6.525,-1.425
  region: 6.525,-0.575 4.9,-0.575 4.9,-0.925 6.525,-0.925
  region: 6.525,-0.075 4.9,-0.075 4.9,-0.425 6.525,-0.425
  region: 6.525,0.425 4.9,0.425 4.9,0.075 6.525,0.075
  region: 6.525,0.925 4.9,0.925 4.9,0.575 6.525,0.575
  region: 6.525,1.425 4.9,1.425 4.9,1.075 6.525,1.075
  region: 6.525,1.925 4.9,1.925 4.9,1.575 6.525,1.575
  region: 6.525,2.425 4.9,2.425 4.9,2.075 6.525,2.075
  region: 6.525,2.925 4.9,2.925 4.9,2.575 6.525,2.575
  region: 6.525,3.425 4.9,3.425 4.9,3.075 6.525,3.075
  region: 6.525,3.925 4.9,3.925 4.9,3.575 6.525,3.575
  region: 3.575,6.525 3.575,4.9 3.925,4.9 3.925,6.525
  region: 3.075,6.525 3.075,4.9 3.425,4.9 3.425,6.525
  region: 2.575,6.525 2.575,4.9 2.925,4.9 2.925,6.525
  region: 2.075,6.525 2.075,4.9 2.425,4.9 2.425,6.525
  region: 1.575,6.525 1.575,4.9 1.925,4.9 1.925,6.525
  region: 1.075,6.525 1.075,4.9 1.425,4.9 1.425,6.525
  region: 0.575,6.525 0.575,4.9 0.925,4.9 0.925,6.525
  region: 0.075,6.525 0.075,4.9 0.425,4.9 0.425,6.525
  region: -0.425,6.525 -0.425,4.9 -0.075,4.9 -0.075,6.525
  region: -0.925,6.525 -0.925,4.9 -0.575,4.9 -0.575,6.525
  region: -1.425,6.525 -1.425,4.9 -1.075,4.9 -1.075,6.525
  region: -1.925,6.525 -1.925,4.9 -1.575,4.9 -1.575,6.525
  region: -2.425,6.525 -2.425,4.9 -2.075,4.9 -2.075,6.525
  region: -2.925,6.525 -2.925,4.9 -2.575,4.9 -2.575,6.525
  region: -3.425,6.525 -3.425,4.9 -3.075,4.9 -3.075,6.525
  region: -3.925,6.525 -3.925,4.9 -3.575,4.9 -3.575,6.525
Mechanical 16:
  rectangle: -6,3.61 -5,3.89
  rectangle: -6,3.11 -5,3.39
  rectangle: -6,2.61 -5,2.89
  rectangle: -6,2.11 -5,2.39
  rectangle: -6,1.61 -5,1.89
  rectangle: -6,1.11 -5,1.39
  rectangle: -6,0.61 -5,0.89
  rectangle: -6,0.11 -5,0.39
  rectangle: -6,-0.39 -5,-0.11
  rectangle: -6,-0.89 -5,-0.61
  rectangle: -6,-1.39 -5,-1.11
  rectangle: -6,-1.89 -5,-1.61
  rectangle: -6,-2.39 -5,-2.11
  rectangle: -6,-2.89 -5,-2.61
  rectangle: -6,-3.39 -5,-3.11
  rectangle: -6,-3.89 -5,-3.61
  rectangle: -3.89,-6 -3.61,-5
  rectangle: -3.39,-6 -3.11,-5
  rectangle: -2.89,-6 -2.61,-5
  rectangle: -2.39,-6 -2.11,-5
  rectangle: -1.89,-6 -1.61,-5
  rectangle: -1.39,-6 -1.11,-5
  rectangle: -0.89,-6 -0.61,-5
  rectangle: -0.39,-6 -0.11,-5
  rectangle: 0.11,-6 0.39,-5
  rectangle: 0.61,-6 0.89,-5
  rectangle: 1.11,-6 1.39,-5
  rectangle: 1.61,-6 1.89,-5
  rectangle: 2.11,-6 2.39,-5
  rectangle: 2.61,-6 2.89,-5
  rectangle: 3.11,-6 3.39,-5
  rectangle: 3.61,-6 3.89,-5
  rectangle: 5,-3.89 6,-3.61
  rectangle: 5,-3.39 6,-3.11
  rectangle: 5,-2.89 6,-2.61
  rectangle: 5,-2.39 6,-2.11
  rectangle: 5,-1.89 6,-1.61
  rectangle: 5,-1.39 6,-1.11
  rectangle: 5,-0.89 6,-0.61
  rectangle: 5,-0.39 6,-0.11
  rectangle: 5,0.11 6,0.39
  rectangle: 5,0.61 6,0.89
  rectangle: 5,1.11 6,1.39
  rectangle: 5,1.61 6,1.89
  rectangle: 5,2.11 6,2.39
  rectangle: 5,2.61 6,2.89
  rectangle: 5,3.11 6,3.39
  rectangle: 5,3.61 6,3.89
  rectangle: 3.61,5 3.89,6
  rectangle: 3.11,5 3.39,6
  rectangle: 2.61,5 2.89,6
  rectangle: 2.11,5 2.39,6
  rectangle: 1.61,5 1.89,6
  rectangle: 1.11,5 1.39,6
  rectangle: 0.61,5 0.89,6
  rectangle: 0.11,5 0.39,6
  rectangle: -0.39,5 -0.11,6
  rectangle: -0.89,5 -0.61,6
  rectangle: -1.39,5 -1.11,6
  rectangle: -1.89,5 -1.61,6
  rectangle: -2.39,5 -2.11,6
  rectangle: -2.89,5 -2.61,6
  rectangle: -3.39,5 -3.11,6
  rectangle: -3.89,5 -3.61,6

## TQFP80-12X12 [mm]
pads (80):
  rect 1.2x0.3 smd: 1(-6.725,4.75) 2(-6.725,4.25) 3(-6.725,3.75) 4(-6.725,3.25) 5(-6.725,2.75) 6(-6.725,2.25) 7(-6.725,1.75) 8(-6.725,1.25) 9(-6.725,0.75) 10(-6.725,0.25) 11(-6.725,-0.25) 12(-6.725,-0.75) 13(-6.725,-1.25) 14(-6.725,-1.75) 15(-6.725,-2.25) 16(-6.725,-2.75) 17(-6.725,-3.25) 18(-6.725,-3.75) 19(-6.725,-4.25) 20(-6.725,-4.75) 41(6.725,-4.75) 42(6.725,-4.25) 43(6.725,-3.75) 44(6.725,-3.25) 45(6.725,-2.75) 46(6.725,-2.25) 47(6.725,-1.75) 48(6.725,-1.25) 49(6.725,-0.75) 50(6.725,-0.25) 51(6.725,0.25) 52(6.725,0.75) 53(6.725,1.25) 54(6.725,1.75) 55(6.725,2.25) 56(6.725,2.75) 57(6.725,3.25) 58(6.725,3.75) 59(6.725,4.25) 60(6.725,4.75)
  rect 0.3x1.2 smd: 21(-4.75,-6.725) 22(-4.25,-6.725) 23(-3.75,-6.725) 24(-3.25,-6.725) 25(-2.75,-6.725) 26(-2.25,-6.725) 27(-1.75,-6.725) 28(-1.25,-6.725) 29(-0.75,-6.725) 30(-0.25,-6.725) 31(0.25,-6.725) 32(0.75,-6.725) 33(1.25,-6.725) 34(1.75,-6.725) 35(2.25,-6.725) 36(2.75,-6.725) 37(3.25,-6.725) 38(3.75,-6.725) 39(4.25,-6.725) 40(4.75,-6.725) 61(4.75,6.725) 62(4.25,6.725) 63(3.75,6.725) 64(3.25,6.725) 65(2.75,6.725) 66(2.25,6.725) 67(1.75,6.725) 68(1.25,6.725) 69(0.75,6.725) 70(0.25,6.725) 71(-0.25,6.725) 72(-0.75,6.725) 73(-1.25,6.725) 74(-1.75,6.725) 75(-2.25,6.725) 76(-2.75,6.725) 77(-3.25,6.725) 78(-3.75,6.725) 79(-4.25,6.725) 80(-4.75,6.725)
Top Overlay:
  circle w0.254: c-4.5,4.5 r0.5
  lines w0.203: -5.86,-5.86 5.86,-5.86 5.86,5.87 -5.21,5.87 -5.86,5.22 -5.86,-5.86
Mechanical 16:
  region: 4.612,7.1 4.612,6.15 4.887,6.15 4.887,7.1
  region: 4.112,7.1 4.112,6.15 4.387,6.15 4.387,7.1
  region: 3.612,7.1 3.612,6.15 3.887,6.15 3.887,7.1
  region: 3.112,7.1 3.112,6.15 3.387,6.15 3.387,7.1
  region: 2.612,7.1 2.612,6.15 2.887,6.15 2.887,7.1
  region: 2.112,7.1 2.112,6.15 2.387,6.15 2.387,7.1
  region: 1.612,7.1 1.612,6.15 1.887,6.15 1.887,7.1
  region: 1.112,7.1 1.112,6.15 1.387,6.15 1.387,7.1
  region: 0.612,7.1 0.612,6.15 0.887,6.15 0.887,7.1
  region: 0.112,7.1 0.112,6.15 0.387,6.15 0.387,7.1
  region: -0.388,7.1 -0.388,6.15 -0.113,6.15 -0.113,7.1
  region: -0.887,7.1 -0.887,6.15 -0.612,6.15 -0.612,7.1
  region: -1.388,7.1 -1.388,6.15 -1.113,6.15 -1.113,7.1
  region: -1.887,7.1 -1.887,6.15 -1.612,6.15 -1.612,7.1
  region: -2.388,7.1 -2.388,6.15 -2.113,6.15 -2.113,7.1
  region: -2.887,7.1 -2.887,6.15 -2.612,6.15 -2.612,7.1
  region: -3.388,7.1 -3.388,6.15 -3.113,6.15 -3.113,7.1
  region: -3.887,7.1 -3.887,6.15 -3.612,6.15 -3.612,7.1
  region: -4.388,7.1 -4.388,6.15 -4.113,6.15 -4.113,7.1
  region: -4.887,7.1 -4.887,6.15 -4.612,6.15 -4.612,7.1
  rectangle: -7.1,4.612 -6.15,4.887
  rectangle: -7.1,4.113 -6.15,4.387
  rectangle: -7.1,3.612 -6.15,3.887
  rectangle: -7.1,3.113 -6.15,3.387
  rectangle: -7.1,2.612 -6.15,2.887
  rectangle: -7.1,2.113 -6.15,2.387
  rectangle: -7.1,1.612 -6.15,1.887
  rectangle: -7.1,1.113 -6.15,1.387
  rectangle: -7.1,0.612 -6.15,0.887
  rectangle: -7.1,0.113 -6.15,0.387
  rectangle: -7.1,-0.388 -6.15,-0.113
  rectangle: -7.1,-0.887 -6.15,-0.612
  rectangle: -7.1,-1.388 -6.15,-1.113
  rectangle: -7.1,-1.887 -6.15,-1.612
  rectangle: -7.1,-2.388 -6.15,-2.113
  rectangle: -7.1,-2.887 -6.15,-2.612
  rectangle: -7.1,-3.388 -6.15,-3.113
  rectangle: -7.1,-3.887 -6.15,-3.612
  rectangle: -7.1,-4.388 -6.15,-4.113
  rectangle: -7.1,-4.887 -6.15,-4.612
  region: -4.612,-7.1 -4.612,-6.15 -4.887,-6.15 -4.887,-7.1
  region: -4.112,-7.1 -4.112,-6.15 -4.387,-6.15 -4.387,-7.1
  region: -3.612,-7.1 -3.612,-6.15 -3.887,-6.15 -3.887,-7.1
  region: -3.112,-7.1 -3.112,-6.15 -3.387,-6.15 -3.387,-7.1
  region: -2.612,-7.1 -2.612,-6.15 -2.887,-6.15 -2.887,-7.1
  region: -2.112,-7.1 -2.112,-6.15 -2.387,-6.15 -2.387,-7.1
  region: -1.612,-7.1 -1.612,-6.15 -1.887,-6.15 -1.887,-7.1
  region: -1.112,-7.1 -1.112,-6.15 -1.387,-6.15 -1.387,-7.1
  region: -0.612,-7.1 -0.612,-6.15 -0.887,-6.15 -0.887,-7.1
  region: -0.112,-7.1 -0.112,-6.15 -0.387,-6.15 -0.387,-7.1
  region: 0.388,-7.1 0.388,-6.15 0.113,-6.15 0.113,-7.1
  region: 0.887,-7.1 0.887,-6.15 0.612,-6.15 0.612,-7.1
  region: 1.388,-7.1 1.388,-6.15 1.113,-6.15 1.113,-7.1
  region: 1.887,-7.1 1.887,-6.15 1.612,-6.15 1.612,-7.1
  region: 2.388,-7.1 2.388,-6.15 2.113,-6.15 2.113,-7.1
  region: 2.887,-7.1 2.887,-6.15 2.612,-6.15 2.612,-7.1
  region: 3.388,-7.1 3.388,-6.15 3.113,-6.15 3.113,-7.1
  region: 3.887,-7.1 3.887,-6.15 3.612,-6.15 3.612,-7.1
  region: 4.388,-7.1 4.388,-6.15 4.113,-6.15 4.113,-7.1
  region: 4.887,-7.1 4.887,-6.15 4.612,-6.15 4.612,-7.1
  region: 7.1,-4.612 6.15,-4.612 6.15,-4.887 7.1,-4.887
  region: 7.1,-4.113 6.15,-4.113 6.15,-4.387 7.1,-4.387
  region: 7.1,-3.612 6.15,-3.612 6.15,-3.887 7.1,-3.887
  region: 7.1,-3.113 6.15,-3.113 6.15,-3.387 7.1,-3.387
  region: 7.1,-2.612 6.15,-2.612 6.15,-2.887 7.1,-2.887
  region: 7.1,-2.113 6.15,-2.113 6.15,-2.387 7.1,-2.387
  region: 7.1,-1.612 6.15,-1.612 6.15,-1.887 7.1,-1.887
  region: 7.1,-1.113 6.15,-1.113 6.15,-1.387 7.1,-1.387
  region: 7.1,-0.612 6.15,-0.612 6.15,-0.887 7.1,-0.887
  region: 7.1,-0.113 6.15,-0.113 6.15,-0.387 7.1,-0.387
  region: 7.1,0.388 6.15,0.388 6.15,0.113 7.1,0.113
  region: 7.1,0.887 6.15,0.887 6.15,0.612 7.1,0.612
  region: 7.1,1.388 6.15,1.388 6.15,1.113 7.1,1.113
  region: 7.1,1.887 6.15,1.887 6.15,1.612 7.1,1.612
  region: 7.1,2.388 6.15,2.388 6.15,2.113 7.1,2.113
  region: 7.1,2.887 6.15,2.887 6.15,2.612 7.1,2.612
  region: 7.1,3.388 6.15,3.388 6.15,3.113 7.1,3.113
  region: 7.1,3.887 6.15,3.887 6.15,3.612 7.1,3.612
  region: 7.1,4.388 6.15,4.388 6.15,4.113 7.1,4.113
  region: 7.1,4.887 6.15,4.887 6.15,4.612 7.1,4.612
  lines w0.203: -6.06,-6.06 6.06,-6.06 6.06,6.06 -5.26,6.06 -6.06,5.26 -6.06,-6.06
Mechanical 27:
  lines w0.2: -7.9,-7.9 -7.9,7.9 7.9,7.9 7.9,-7.9 -7.9,-7.9

## TQFP100-12X12 [mm]
pads (100):
  rect 0.95x0.25 smd: 1(-6.725,4.8) 2(-6.725,4.4) 3(-6.725,4) 4(-6.725,3.6) 5(-6.725,3.2) 6(-6.725,2.8) 7(-6.725,2.4) 8(-6.725,2) 9(-6.725,1.6) 10(-6.725,1.2) 11(-6.725,0.8) 12(-6.725,0.4) 13(-6.725,0) 14(-6.725,-0.4) 15(-6.725,-0.8) 16(-6.725,-1.2) 17(-6.725,-1.6) 18(-6.725,-2) 19(-6.725,-2.4) 20(-6.725,-2.8) 21(-6.725,-3.2) 22(-6.725,-3.6) 23(-6.725,-4) 24(-6.725,-4.4) 25(-6.725,-4.8) 51(6.725,-4.8) 52(6.725,-4.4) 53(6.725,-4) 54(6.725,-3.6) 55(6.725,-3.2) 56(6.725,-2.8) 57(6.725,-2.4) 58(6.725,-2) 59(6.725,-1.6) 60(6.725,-1.2) 61(6.725,-0.8) 62(6.725,-0.4) 63(6.725,0) 64(6.725,0.4) 65(6.725,0.8) 66(6.725,1.2) 67(6.725,1.6) 68(6.725,2) 69(6.725,2.4) 70(6.725,2.8) 71(6.725,3.2) 72(6.725,3.6) 73(6.725,4) 74(6.725,4.4) 75(6.725,4.8)
  rect 0.25x0.95 smd: 26(-4.8,-6.725) 27(-4.4,-6.725) 28(-4,-6.725) 29(-3.6,-6.725) 30(-3.2,-6.725) 31(-2.8,-6.725) 32(-2.4,-6.725) 33(-2,-6.725) 34(-1.6,-6.725) 35(-1.2,-6.725) 36(-0.8,-6.725) 37(-0.4,-6.725) 38(0,-6.725) 39(0.4,-6.725) 40(0.8,-6.725) 41(1.2,-6.725) 42(1.6,-6.725) 43(2,-6.725) 44(2.4,-6.725) 45(2.8,-6.725) 46(3.2,-6.725) 47(3.6,-6.725) 48(4,-6.725) 49(4.4,-6.725) 50(4.8,-6.725) 76(4.8,6.725) 77(4.4,6.725) 78(4,6.725) 79(3.6,6.725) 80(3.2,6.725) 81(2.8,6.725) 82(2.4,6.725) 83(2,6.725) 84(1.6,6.725) 85(1.2,6.725) 86(0.8,6.725) 87(0.4,6.725) 88(0,6.725) 89(-0.4,6.725) 90(-0.8,6.725) 91(-1.2,6.725) 92(-1.6,6.725) 93(-2,6.725) 94(-2.4,6.725) 95(-2.8,6.725) 96(-3.2,6.725) 97(-3.6,6.725) 98(-4,6.725) 99(-4.4,6.725) 100(-4.8,6.725)
Top Overlay:
  lines w0.203: -5.898,-5.898 5.898,-5.898 5.898,5.898 -5.4,5.898 -5.898,5.4 -5.898,-5.898
Top Solder:
  rectangle: -7.25,4.65 -6.2,4.95
  rectangle: -7.25,4.25 -6.2,4.55
  rectangle: -7.25,3.85 -6.2,4.15
  rectangle: -7.25,3.45 -6.2,3.75
  rectangle: -7.25,3.05 -6.2,3.35
  rectangle: -7.25,2.65 -6.2,2.95
  rectangle: -7.25,2.25 -6.2,2.55
  rectangle: -7.25,1.85 -6.2,2.15
  rectangle: -7.25,1.45 -6.2,1.75
  rectangle: -7.25,1.05 -6.2,1.35
  rectangle: -7.25,0.65 -6.2,0.95
  rectangle: -7.25,0.25 -6.2,0.55
  rectangle: -7.25,-0.15 -6.2,0.15
  rectangle: -7.25,-0.55 -6.2,-0.25
  rectangle: -7.25,-0.95 -6.2,-0.65
  rectangle: -7.25,-1.35 -6.2,-1.05
  rectangle: -7.25,-1.75 -6.2,-1.45
  rectangle: -7.25,-2.15 -6.2,-1.85
  rectangle: -7.25,-2.55 -6.2,-2.25
  rectangle: -7.25,-2.95 -6.2,-2.65
  rectangle: -7.25,-3.35 -6.2,-3.05
  rectangle: -7.25,-3.75 -6.2,-3.45
  rectangle: -7.25,-4.15 -6.2,-3.85
  rectangle: -7.25,-4.55 -6.2,-4.25
  rectangle: -7.25,-4.95 -6.2,-4.65
  region: -4.65,-7.25 -4.65,-6.2 -4.95,-6.2 -4.95,-7.25
  region: -4.25,-7.25 -4.25,-6.2 -4.55,-6.2 -4.55,-7.25
  region: -3.85,-7.25 -3.85,-6.2 -4.15,-6.2 -4.15,-7.25
  region: -3.45,-7.25 -3.45,-6.2 -3.75,-6.2 -3.75,-7.25
  region: -3.05,-7.25 -3.05,-6.2 -3.35,-6.2 -3.35,-7.25
  region: -2.65,-7.25 -2.65,-6.2 -2.95,-6.2 -2.95,-7.25
  region: -2.25,-7.25 -2.25,-6.2 -2.55,-6.2 -2.55,-7.25
  region: -1.85,-7.25 -1.85,-6.2 -2.15,-6.2 -2.15,-7.25
  region: -1.45,-7.25 -1.45,-6.2 -1.75,-6.2 -1.75,-7.25
  region: -1.05,-7.25 -1.05,-6.2 -1.35,-6.2 -1.35,-7.25
  region: -0.65,-7.25 -0.65,-6.2 -0.95,-6.2 -0.95,-7.25
  region: -0.25,-7.25 -0.25,-6.2 -0.55,-6.2 -0.55,-7.25
  region: 0.15,-7.25 0.15,-6.2 -0.15,-6.2 -0.15,-7.25
  region: 0.55,-7.25 0.55,-6.2 0.25,-6.2 0.25,-7.25
  region: 0.95,-7.25 0.95,-6.2 0.65,-6.2 0.65,-7.25
  region: 1.35,-7.25 1.35,-6.2 1.05,-6.2 1.05,-7.25
  region: 1.75,-7.25 1.75,-6.2 1.45,-6.2 1.45,-7.25
  region: 2.15,-7.25 2.15,-6.2 1.85,-6.2 1.85,-7.25
  region: 2.55,-7.25 2.55,-6.2 2.25,-6.2 2.25,-7.25
  region: 2.95,-7.25 2.95,-6.2 2.65,-6.2 2.65,-7.25
  region: 3.35,-7.25 3.35,-6.2 3.05,-6.2 3.05,-7.25
  region: 3.75,-7.25 3.75,-6.2 3.45,-6.2 3.45,-7.25
  region: 4.15,-7.25 4.15,-6.2 3.85,-6.2 3.85,-7.25
  region: 4.55,-7.25 4.55,-6.2 4.25,-6.2 4.25,-7.25
  region: 4.95,-7.25 4.95,-6.2 4.65,-6.2 4.65,-7.25
  region: 7.25,-4.65 6.2,-4.65 6.2,-4.95 7.25,-4.95
  region: 7.25,-4.25 6.2,-4.25 6.2,-4.55 7.25,-4.55
  region: 7.25,-3.85 6.2,-3.85 6.2,-4.15 7.25,-4.15
  region: 7.25,-3.45 6.2,-3.45 6.2,-3.75 7.25,-3.75
  region: 7.25,-3.05 6.2,-3.05 6.2,-3.35 7.25,-3.35
  region: 7.25,-2.65 6.2,-2.65 6.2,-2.95 7.25,-2.95
  region: 7.25,-2.25 6.2,-2.25 6.2,-2.55 7.25,-2.55
  region: 7.25,-1.85 6.2,-1.85 6.2,-2.15 7.25,-2.15
  region: 7.25,-1.45 6.2,-1.45 6.2,-1.75 7.25,-1.75
  region: 7.25,-1.05 6.2,-1.05 6.2,-1.35 7.25,-1.35
  region: 7.25,-0.65 6.2,-0.65 6.2,-0.95 7.25,-0.95
  region: 7.25,-0.25 6.2,-0.25 6.2,-0.55 7.25,-0.55
  region: 7.25,0.15 6.2,0.15 6.2,-0.15 7.25,-0.15
  region: 7.25,0.55 6.2,0.55 6.2,0.25 7.25,0.25
  region: 7.25,0.95 6.2,0.95 6.2,0.65 7.25,0.65
  region: 7.25,1.35 6.2,1.35 6.2,1.05 7.25,1.05
  region: 7.25,1.75 6.2,1.75 6.2,1.45 7.25,1.45
  region: 7.25,2.15 6.2,2.15 6.2,1.85 7.25,1.85
  region: 7.25,2.55 6.2,2.55 6.2,2.25 7.25,2.25
  region: 7.25,2.95 6.2,2.95 6.2,2.65 7.25,2.65
  region: 7.25,3.35 6.2,3.35 6.2,3.05 7.25,3.05
  region: 7.25,3.75 6.2,3.75 6.2,3.45 7.25,3.45
  region: 7.25,4.15 6.2,4.15 6.2,3.85 7.25,3.85
  region: 7.25,4.55 6.2,4.55 6.2,4.25 7.25,4.25
  region: 7.25,4.95 6.2,4.95 6.2,4.65 7.25,4.65
  region: 4.65,7.25 4.65,6.2 4.95,6.2 4.95,7.25
  region: 4.25,7.25 4.25,6.2 4.55,6.2 4.55,7.25
  region: 3.85,7.25 3.85,6.2 4.15,6.2 4.15,7.25
  region: 3.45,7.25 3.45,6.2 3.75,6.2 3.75,7.25
  region: 3.05,7.25 3.05,6.2 3.35,6.2 3.35,7.25
  region: 2.65,7.25 2.65,6.2 2.95,6.2 2.95,7.25
  region: 2.25,7.25 2.25,6.2 2.55,6.2 2.55,7.25
  region: 1.85,7.25 1.85,6.2 2.15,6.2 2.15,7.25
  region: 1.45,7.25 1.45,6.2 1.75,6.2 1.75,7.25
  region: 1.05,7.25 1.05,6.2 1.35,6.2 1.35,7.25
  region: 0.65,7.25 0.65,6.2 0.95,6.2 0.95,7.25
  region: 0.25,7.25 0.25,6.2 0.55,6.2 0.55,7.25
  region: -0.15,7.25 -0.15,6.2 0.15,6.2 0.15,7.25
  region: -0.55,7.25 -0.55,6.2 -0.25,6.2 -0.25,7.25
  region: -0.95,7.25 -0.95,6.2 -0.65,6.2 -0.65,7.25
  region: -1.35,7.25 -1.35,6.2 -1.05,6.2 -1.05,7.25
  region: -1.75,7.25 -1.75,6.2 -1.45,6.2 -1.45,7.25
  region: -2.15,7.25 -2.15,6.2 -1.85,6.2 -1.85,7.25
  region: -2.55,7.25 -2.55,6.2 -2.25,6.2 -2.25,7.25
  region: -2.95,7.25 -2.95,6.2 -2.65,6.2 -2.65,7.25
  region: -3.35,7.25 -3.35,6.2 -3.05,6.2 -3.05,7.25
  region: -3.75,7.25 -3.75,6.2 -3.45,6.2 -3.45,7.25
  region: -4.15,7.25 -4.15,6.2 -3.85,6.2 -3.85,7.25
  region: -4.55,7.25 -4.55,6.2 -4.25,6.2 -4.25,7.25
  region: -4.95,7.25 -4.95,6.2 -4.65,6.2 -4.65,7.25
Mechanical 16:
  rectangle: -7,4.685 -6,4.915
  rectangle: -7,4.285 -6,4.515
  rectangle: -7,3.885 -6,4.115
  rectangle: -7,3.485 -6,3.715
  rectangle: -7,3.085 -6,3.315
  rectangle: -7,2.685 -6,2.915
  rectangle: -7,2.285 -6,2.515
  rectangle: -7,1.885 -6,2.115
  rectangle: -7,1.485 -6,1.715
  rectangle: -7,1.085 -6,1.315
  rectangle: -7,0.685 -6,0.915
  rectangle: -7,0.285 -6,0.515
  rectangle: -7,-0.115 -6,0.115
  rectangle: -7,-0.515 -6,-0.285
  rectangle: -7,-0.915 -6,-0.685
  rectangle: -7,-1.315 -6,-1.085
  rectangle: -7,-1.715 -6,-1.485
  rectangle: -7,-2.115 -6,-1.885
  rectangle: -7,-2.515 -6,-2.285
  rectangle: -7,-2.915 -6,-2.685
  rectangle: -7,-3.315 -6,-3.085
  rectangle: -7,-3.715 -6,-3.485
  rectangle: -7,-4.115 -6,-3.885
  rectangle: -7,-4.515 -6,-4.285
  rectangle: -7,-4.915 -6,-4.685
  rectangle: -4.915,-7 -4.685,-6
  rectangle: -4.515,-7 -4.285,-6
  rectangle: -4.115,-7 -3.885,-6
  rectangle: -3.715,-7 -3.485,-6
  rectangle: -3.315,-7 -3.085,-6
  rectangle: -2.915,-7 -2.685,-6
  rectangle: -2.515,-7 -2.285,-6
  rectangle: -2.115,-7 -1.885,-6
  rectangle: -1.715,-7 -1.485,-6
  rectangle: -1.315,-7 -1.085,-6
  rectangle: -0.915,-7 -0.685,-6
  rectangle: -0.515,-7 -0.285,-6
  rectangle: -0.115,-7 0.115,-6
  rectangle: 0.285,-7 0.515,-6
  rectangle: 0.685,-7 0.915,-6
  rectangle: 1.085,-7 1.315,-6
  rectangle: 1.485,-7 1.715,-6
  rectangle: 1.885,-7 2.115,-6
  rectangle: 2.285,-7 2.515,-6
  rectangle: 2.685,-7 2.915,-6
  rectangle: 3.085,-7 3.315,-6
  rectangle: 3.485,-7 3.715,-6
  rectangle: 3.885,-7 4.115,-6
  rectangle: 4.285,-7 4.515,-6
  rectangle: 4.685,-7 4.915,-6
  rectangle: 6,-4.915 7,-4.685
  rectangle: 6,-4.515 7,-4.285
  rectangle: 6,-4.115 7,-3.885
  rectangle: 6,-3.715 7,-3.485
  rectangle: 6,-3.315 7,-3.085
  rectangle: 6,-2.915 7,-2.685
  rectangle: 6,-2.515 7,-2.285
  rectangle: 6,-2.115 7,-1.885
  rectangle: 6,-1.715 7,-1.485
  rectangle: 6,-1.315 7,-1.085
  rectangle: 6,-0.915 7,-0.685
  rectangle: 6,-0.515 7,-0.285
  rectangle: 6,-0.115 7,0.115
  rectangle: 6,0.285 7,0.515
  rectangle: 6,0.685 7,0.915
  rectangle: 6,1.085 7,1.315
  rectangle: 6,1.485 7,1.715
  rectangle: 6,1.885 7,2.115
  rectangle: 6,2.285 7,2.515
  rectangle: 6,2.685 7,2.915
  rectangle: 6,3.085 7,3.315
  rectangle: 6,3.485 7,3.715
  rectangle: 6,3.885 7,4.115
  rectangle: 6,4.285 7,4.515
  rectangle: 6,4.685 7,4.915
  rectangle: 4.685,6 4.915,7
  rectangle: 4.285,6 4.515,7
  rectangle: 3.885,6 4.115,7
  rectangle: 3.485,6 3.715,7
  rectangle: 3.085,6 3.315,7
  rectangle: 2.685,6 2.915,7
  rectangle: 2.285,6 2.515,7
  rectangle: 1.885,6 2.115,7
  rectangle: 1.485,6 1.715,7
  rectangle: 1.085,6 1.315,7
  rectangle: 0.685,6 0.915,7
  rectangle: 0.285,6 0.515,7
  rectangle: -0.115,6 0.115,7
  rectangle: -0.515,6 -0.285,7
  rectangle: -0.915,6 -0.685,7
  rectangle: -1.315,6 -1.085,7
  rectangle: -1.715,6 -1.485,7
  rectangle: -2.115,6 -1.885,7
  rectangle: -2.515,6 -2.285,7
  rectangle: -2.915,6 -2.685,7
  rectangle: -3.315,6 -3.085,7
  rectangle: -3.715,6 -3.485,7
  rectangle: -4.115,6 -3.885,7
  rectangle: -4.515,6 -4.285,7
  rectangle: -4.915,6 -4.685,7

## TQFP100-14X14 [mm]
pads (100):
  rect 0.27x1.5 smd: 1(-6,-7.75) 2(-5.5,-7.75) 3(-5,-7.75) 4(-4.5,-7.75) 5(-4,-7.75) 6(-3.5,-7.75) 7(-3,-7.75) 8(-2.5,-7.75) 9(-2,-7.75) 10(-1.5,-7.75) 11(-1,-7.75) 12(-0.5,-7.75) 13(0,-7.75) 14(0.5,-7.75) 15(1,-7.75) 16(1.5,-7.75) 17(2,-7.75) 18(2.5,-7.75) 19(3,-7.75) 20(3.5,-7.75) 21(4,-7.75) 22(4.5,-7.75) 23(5,-7.75) 24(5.5,-7.75) 25(6,-7.75) 51(6,7.75) 52(5.5,7.75) 53(5,7.75) 54(4.5,7.75) 55(4,7.75) 56(3.5,7.75) 57(3,7.75) 58(2.5,7.75) 59(2,7.75) 60(1.5,7.75) 61(1,7.75) 62(0.5,7.75) 63(0,7.75) 64(-0.5,7.75) 65(-1,7.75) 66(-1.5,7.75) 67(-2,7.75) 68(-2.5,7.75) 69(-3,7.75) 70(-3.5,7.75) 71(-4,7.75) 72(-4.5,7.75) 73(-5,7.75) 74(-5.5,7.75) 75(-6,7.75)
  rect 1.5x0.27 smd: 26(7.75,-6) 27(7.75,-5.5) 28(7.75,-5) 29(7.75,-4.5) 30(7.75,-4) 31(7.75,-3.5) 32(7.75,-3) 33(7.75,-2.5) 34(7.75,-2) 35(7.75,-1.5) 36(7.75,-1) 37(7.75,-0.5) 38(7.75,0) 39(7.75,0.5) 40(7.75,1) 41(7.75,1.5) 42(7.75,2) 43(7.75,2.5) 44(7.75,3) 45(7.75,3.5) 46(7.75,4) 47(7.75,4.5) 48(7.75,5) 49(7.75,5.5) 50(7.75,6) 76(-7.75,6) 77(-7.75,5.5) 78(-7.75,5) 79(-7.75,4.5) 80(-7.75,4) 81(-7.75,3.5) 82(-7.75,3) 83(-7.75,2.5) 84(-7.75,2) 85(-7.75,1.5) 86(-7.75,1) 87(-7.75,0.5) 88(-7.75,0) 89(-7.75,-0.5) 90(-7.75,-1) 91(-7.75,-1.5) 92(-7.75,-2) 93(-7.75,-2.5) 94(-7.75,-3) 95(-7.75,-3.5) 96(-7.75,-4) 97(-7.75,-4.5) 98(-7.75,-5) 99(-7.75,-5.5) 100(-7.75,-6)
Top Overlay:
  circle w0.152: c-4.5,-4.5 r1
  lines w0.152: -6.873,-6.123 -6.123,-6.873 6.873,-6.873 6.873,6.873 -6.873,6.873 -6.873,-6.123
Mechanical 16:
  rectangle: -6.135,6.868 -5.865,7.873
  rectangle: -5.635,6.868 -5.365,7.873
  rectangle: -5.135,6.868 -4.865,7.873
  rectangle: -4.635,6.868 -4.365,7.873
  rectangle: -4.135,6.868 -3.865,7.873
  rectangle: -3.635,6.868 -3.365,7.873
  rectangle: -3.135,6.868 -2.865,7.873
  rectangle: -2.635,6.868 -2.365,7.873
  rectangle: -2.135,6.868 -1.865,7.873
  rectangle: -1.635,6.868 -1.365,7.873
  rectangle: -1.135,6.868 -0.865,7.873
  rectangle: -0.635,6.868 -0.365,7.873
  rectangle: -0.135,6.868 0.135,7.873
  rectangle: 0.365,6.868 0.635,7.873
  rectangle: 0.865,6.868 1.135,7.873
  rectangle: 1.365,6.868 1.635,7.873
  rectangle: 1.865,6.868 2.135,7.873
  rectangle: 2.365,6.868 2.635,7.873
  rectangle: 2.865,6.868 3.135,7.873
  rectangle: 3.365,6.868 3.635,7.873
  rectangle: 3.865,6.868 4.135,7.873
  rectangle: 4.365,6.868 4.635,7.873
  rectangle: 4.865,6.868 5.135,7.873
  rectangle: 5.365,6.868 5.635,7.873
  rectangle: 5.865,6.868 6.135,7.873
  rectangle: 6.873,5.865 7.878,6.135
  rectangle: 6.873,5.365 7.878,5.635
  rectangle: 6.873,4.865 7.878,5.135
  rectangle: 6.873,4.365 7.878,4.635
  rectangle: 6.873,3.865 7.878,4.135
  rectangle: 6.873,3.365 7.878,3.635
  rectangle: 6.873,2.865 7.878,3.135
  rectangle: 6.873,2.365 7.878,2.635
  rectangle: 6.873,1.865 7.878,2.135
  rectangle: 6.873,1.365 7.878,1.635
  rectangle: 6.873,0.865 7.878,1.135
  rectangle: 6.873,0.365 7.878,0.635
  rectangle: 6.873,-0.135 7.878,0.135
  rectangle: 6.873,-0.635 7.878,-0.365
  rectangle: 6.873,-1.135 7.878,-0.865
  rectangle: 6.873,-1.635 7.878,-1.365
  rectangle: 6.873,-2.135 7.878,-1.865
  rectangle: 6.873,-2.635 7.878,-2.365
  rectangle: 6.873,-3.135 7.878,-2.865
  rectangle: 6.873,-3.635 7.878,-3.365
  rectangle: 6.873,-4.135 7.878,-3.865
  rectangle: 6.873,-4.635 7.878,-4.365
  rectangle: 6.873,-5.135 7.878,-4.865
  rectangle: 6.873,-5.635 7.878,-5.365
  rectangle: 6.873,-6.135 7.878,-5.865
  rectangle: 5.865,-7.873 6.135,-6.868
  rectangle: 5.365,-7.873 5.635,-6.868
  rectangle: 4.865,-7.873 5.135,-6.868
  rectangle: 4.365,-7.873 4.635,-6.868
  rectangle: 3.865,-7.873 4.135,-6.868
  rectangle: 3.365,-7.873 3.635,-6.868
  rectangle: 2.865,-7.873 3.135,-6.868
  rectangle: 2.365,-7.873 2.635,-6.868
  rectangle: 1.865,-7.873 2.135,-6.868
  rectangle: 1.365,-7.873 1.635,-6.868
  rectangle: 0.865,-7.873 1.135,-6.868
  rectangle: 0.365,-7.873 0.635,-6.868
  rectangle: -0.135,-7.873 0.135,-6.868
  rectangle: -0.635,-7.873 -0.365,-6.868
  rectangle: -1.135,-7.873 -0.865,-6.868
  rectangle: -1.635,-7.873 -1.365,-6.868
  rectangle: -2.135,-7.873 -1.865,-6.868
  rectangle: -2.635,-7.873 -2.365,-6.868
  rectangle: -3.135,-7.873 -2.865,-6.868
  rectangle: -3.635,-7.873 -3.365,-6.868
  rectangle: -4.135,-7.873 -3.865,-6.868
  rectangle: -4.635,-7.873 -4.365,-6.868
  rectangle: -5.135,-7.873 -4.865,-6.868
  rectangle: -5.635,-7.873 -5.365,-6.868
  rectangle: -6.135,-7.873 -5.865,-6.868
  rectangle: -7.878,-6.135 -6.873,-5.865
  rectangle: -7.878,-5.635 -6.873,-5.365
  rectangle: -7.878,-5.135 -6.873,-4.865
  rectangle: -7.878,-4.635 -6.873,-4.365
  rectangle: -7.878,-4.135 -6.873,-3.865
  rectangle: -7.878,-3.635 -6.873,-3.365
  rectangle: -7.878,-3.135 -6.873,-2.865
  rectangle: -7.878,-2.635 -6.873,-2.365
  rectangle: -7.878,-2.135 -6.873,-1.865
  rectangle: -7.878,-1.635 -6.873,-1.365
  rectangle: -7.878,-1.135 -6.873,-0.865
  rectangle: -7.878,-0.635 -6.873,-0.365
  rectangle: -7.878,-0.135 -6.873,0.135
  rectangle: -7.878,0.365 -6.873,0.635
  rectangle: -7.878,0.865 -6.873,1.135
  rectangle: -7.878,1.365 -6.873,1.635
  rectangle: -7.878,1.865 -6.873,2.135
  rectangle: -7.878,2.365 -6.873,2.635
  rectangle: -7.878,2.865 -6.873,3.135
  rectangle: -7.878,3.365 -6.873,3.635
  rectangle: -7.878,3.865 -6.873,4.135
  rectangle: -7.878,4.365 -6.873,4.635
  rectangle: -7.878,4.865 -6.873,5.135
  rectangle: -7.878,5.365 -6.873,5.635
  rectangle: -7.878,5.865 -6.873,6.135